# Altium schematic symbol library CommunicationLib.SchLib: 4 symbols
Pins are listed as number, name and electrical type; pins without a type are passive.

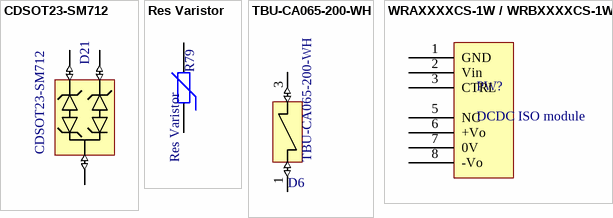
[diagram p0: symbols CDSOT23-SM712 to WRAXXXXCS-1W / WRBXXXXCS-1W]

## CDSOT23-SM712
designator D21
Diode, Smt Tvs Array, 7vrwm & 12vrwm, Sot23 Package; MF: Bourns; MP: CDSOT23-SM712; SnapEDA_Link: https://www.snapeda.com/symbols-footprints/CDSOT23-SM712/Bourns%20-%20J.W.%20Miller/view-part/?ref=snap; Price: 0.85 USD; Package: SOT-23 Bourns; Availability: Good; Value: *
footprint SOT 23- 3
pins: 1 GND (io), 2 IO1 (io), 3 IO2 (io)

## Res Varistor
designator R79
Varistor (Voltage-Sensitive Resistor); Published: 24-Mar-1999; LatestRevisionDate: 29-May-2009; LatestRevisionNote: IPC-7351 Footprint Added.; PackageVersion: Mar-2003; PackageReference: 6-0805; Publisher: Altium Limited; PackageDescription: Chip Resistor 0805 Case Size; Code_IPC: RESC2012
footprint MOV 3225 (B72650M0171K072  CU Series Metal OxideVaristor 75pF 5A, Clamping 455V, Varistor 270V 3225 Case)
pins: 1, 2

## TBU-CA065-200-WH
designator D6
TBU-CA065-200-WH, Bi-Directional TVS Diode, 12-Pin DFN; MF: Bourns; Price: 1.00 USD; MP: TBU-CA065-200-WH; Package: SMD-4 Bourns; SnapEDA_Link: https://www.snapeda.com/symbols-footprints/TBU-CA065-200-WH/Bourns%20-%20J.W.%20Miller/view-part/?ref=snap; Availability: Good; Value: *
footprint DIOC650X400X100N
pins: 1 (io), 3 (io)

## WRAXXXXCS-1W / WRBXXXXCS-1W
designator PW?, comment DCDC ISO module
footprint WRAXXXXCS-1W / WRBXXXXCS-1W
pins: 1 GND, 2 Vin, 3 CTRL, 5 NC, 6 +Vo, 7 0V, 8 -Vo